# Altium footprint library GFZJ 主控制板.PcbLib: 26 footprints (part 2 of 2)
Each footprint in its own frame and in the unit in brackets; x right, y up, seen from the top. Pads: shape width x height; smd on the part's side, far side on the other; paste and mask are expansions set on the pad; w line width, h text height; cw(c..) or ccw(c..) is an arc to the next point about the centre after c.
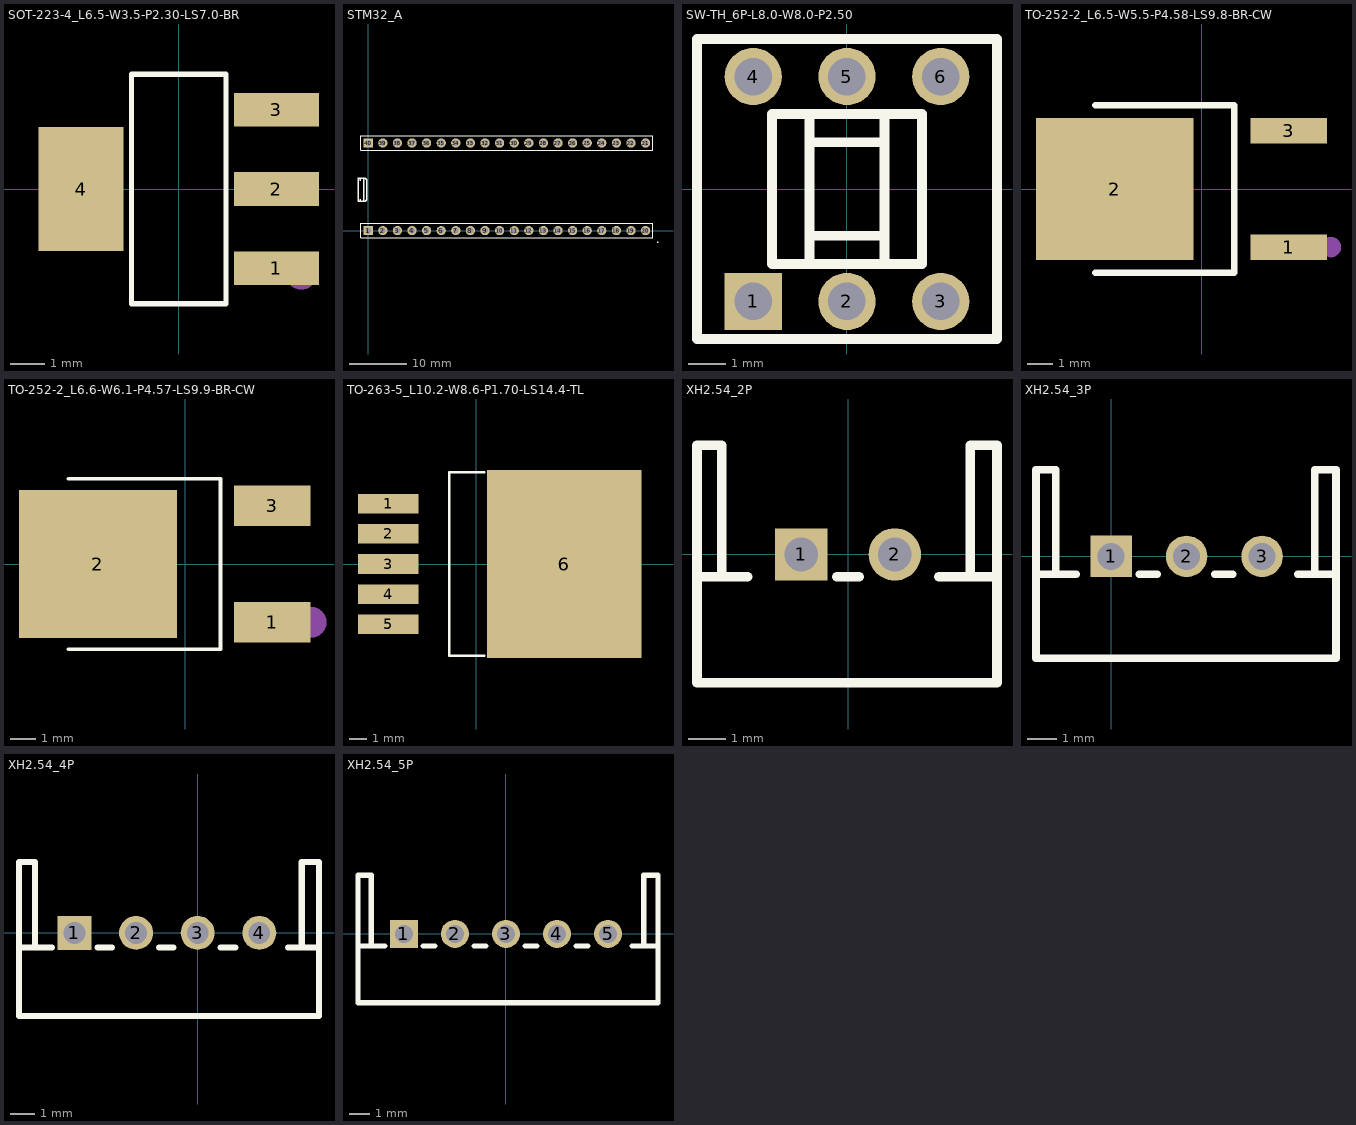
[diagram p1: the footprints below, top view; thin cyan lines are the x and y axes]

## SOT-223-4_L6.5-W3.5-P2.30-LS7.0-BR [mm] "AMS1117-3V3"
pads (4):
  rect 2.47x0.98 smd: 1(2.835,-2.3) 2(2.835,0) 3(2.835,2.3)
  rect 2.47x3.6 smd: 4(-2.835,0)
Top Overlay:
  lines w0.152: -1.371,-3.326 1.371,-3.326 1.371,3.326 -1.371,3.326 -1.371,-3.326
Mechanical 15:
  circle w0.5: c3.556,-2.413 r0.25

## STM32_A [mm]
pads (40):
  rect 1.6x1.6 hole 1: 1(0,0) 40(0,15.24)
  round 1.6 hole 1: 2(2.54,0) 3(5.08,0) 4(7.62,0) 5(10.16,0) 6(12.7,0) 7(15.24,0) 8(17.78,0) 9(20.32,0) 10(22.86,0) 11(25.4,0) 12(27.94,0) 13(30.48,0) 14(33.02,0) 15(35.56,0) 16(38.1,0) 17(40.64,0) 18(43.18,0) 19(45.72,0) 20(48.26,0) 21(48.26,15.24) 22(45.72,15.24) 23(43.18,15.24) 24(40.64,15.24) 25(38.1,15.24) 26(35.56,15.24) 27(33.02,15.24) 28(30.48,15.24) 29(27.94,15.24) 30(25.4,15.24) 31(22.86,15.24) 32(20.32,15.24) 33(17.78,15.24) 34(15.24,15.24) 35(12.7,15.24) 36(10.16,15.24) 37(7.62,15.24) 38(5.08,15.24) 39(2.54,15.24)
Top Overlay:
  lines w0.2: -1.27,-1.27 49.53,-1.27 49.53,1.27 0.635,1.27 -1.27,1.27 -1.27,-1.27 ; -1.27,13.97 49.53,13.97 49.53,16.51 0.635,16.51 -1.27,16.51 -1.27,13.97
  lines w0.254: -1.397,5.461 -1.397,5.08 ; -1.397,8.636 -1.397,9.144 ; -0.762,5.08 -0.762,9.144 ; 50.292,-2.032 50.419,-2.032 ; -1.397,5.08 -1.778,5.08 -1.778,9.144 -1.397,9.144 ; -1.397,5.08 -0.508,5.08 -0.254,5.334 -0.254,8.89 -0.508,9.144 -1.397,9.144

## SW-TH_6P-L8.0-W8.0-P2.50 [mm] "8*8自锁/无锁按钮开关 自锁 按下2-3 4-5松开1-3 4-6"
pads (6):
  rect 1.524x1.524 hole 1: 1(-2.5,-3)
  round 1.524 hole 1: 2(0,-3) 3(2.5,-3) 4(-2.5,3) 5(0,3) 6(2.5,3)
Top Overlay:
  lines w0.254: -1,-2 -1,2 ; -1,-1.25 1,-1.25 ; -1,1.25 1,1.25 ; 1,-2 1,2 ; -4,-4 4,-4 4,4 -4,4 -4,-4 ; -2,-2 2,-2 2,2 -2,2 -2,-2

## TO-252-2_L6.5-W5.5-P4.58-LS9.8-BR-CW [mm] "78M05"
pads (3):
  rect 3x1 smd: 1(3.423,-2.29) 3(3.424,2.29)
  rect 6.2x5.6 smd: 2(-3.424,0)
Top Overlay:
  lines w0.254: -4.191,-3.302 1.27,-3.302 1.27,3.302 -4.191,3.302
Mechanical 15:
  circle w0.4: c5.08,-2.286 r0.2

## TO-252-2_L6.6-W6.1-P4.57-LS9.9-BR-CW [mm] "78M12"
pads (3):
  rect 3x1.6 smd: 1(3.424,-2.29) 3(3.424,2.29)
  rect 6.2x5.8 smd: 2(-3.424,0)
Top Overlay:
  lines w0.152: -4.585,-3.346 1.383,-3.346 1.383,3.346 -4.585,3.346
Mechanical 15:
  circle w0.6: c4.953,-2.286 r0.3

## TO-263-5_L10.2-W8.6-P1.70-LS14.4-TL [mm] "LM2576S-5V       开关稳压器"
pads (6):
  rect 3.4x1.1 smd: 1(-4.953,3.4) 2(-4.953,1.7) 3(-4.953,0) 4(-4.953,-1.7) 5(-4.953,-3.4)
  rect 8.705x10.587 smd: 6(4.953,0)
Top Overlay:
  lines w0.152: 0.448,-5.166 -1.516,-5.166 -1.516,5.166 0.448,5.166
Mechanical 15:
  circle w0.42: c-6.096,3.429 r0.21

## XH2.54_2P [mm] "XH2.54"
pads (2):
  rect 1.4x1.4 hole 0.9: 1(-1.25,0)
  round 1.4 hole 0.9: 2(1.25,0)
Top Overlay:
  lines w0.254: -4.032,-0.6 -2.682,-0.6 ; -3.372,-0.6 -3.372,2.921 -4.032,2.921 -4.032,-3.429 3.978,-3.429 3.978,2.921 3.268,2.921 3.268,-0.6 ; -0.3,-0.6 0.3,-0.6 ; 2.428,-0.6 3.978,-0.6

## XH2.54_3P [mm] "XH2.54"
pads (3):
  rect 1.4x1.4 hole 0.9: 1(0,0)
  round 1.4 hole 0.9: 2(2.54,0) 3(5.08,0)
Top Overlay:
  lines w0.254: -2.528,-0.6 -1.178,-0.6 ; -1.868,-0.6 -1.868,2.921 -2.528,2.921 -2.528,-3.429 7.568,-3.429 7.568,2.921 6.858,2.921 6.858,-0.6 ; 0.95,-0.6 1.55,-0.6 ; 3.49,-0.6 4.09,-0.6 ; 6.284,-0.6 6.884,-0.6 ; 6.792,-0.6 7.392,-0.6

## XH2.54_4P [mm] "XH2.54"
pads (4):
  rect 1.4x1.4 hole 0.9: 1(-5.08,0)
  round 1.4 hole 0.9: 2(-2.54,0) 3(0,0) 4(2.54,0)
Top Overlay:
  lines w0.254: -7.366,-0.6 -6.016,-0.6 ; -6.706,-0.6 -6.706,2.921 -7.366,2.921 -7.366,-3.429 5.002,-3.429 5.002,2.921 4.292,2.921 4.292,-0.6 ; -4.13,-0.6 -3.53,-0.6 ; -1.59,-0.6 -0.99,-0.6 ; 0.95,-0.6 1.55,-0.6 ; 3.718,-0.6 4.318,-0.6 ; 4.226,-0.6 4.826,-0.6

## XH2.54_5P [mm] "XH2.54"
pads (5):
  rect 1.4x1.4 hole 0.9: 1(-5.08,0)
  round 1.4 hole 0.9: 2(-2.54,0) 3(0,0) 4(2.54,0) 5(5.08,0)
Top Overlay:
  lines w0.254: -7.366,-0.6 -6.016,-0.6 ; -6.706,-0.6 -6.706,2.921 -7.366,2.921 -7.366,-3.429 7.568,-3.429 7.568,2.921 6.858,2.921 6.858,-0.6 ; -4.13,-0.6 -3.53,-0.6 ; -1.59,-0.6 -0.99,-0.6 ; 0.95,-0.6 1.55,-0.6 ; 3.49,-0.6 4.09,-0.6 ; 6.284,-0.6 6.884,-0.6 ; 6.792,-0.6 7.392,-0.6